# EAGLE library part SW-LED (library MOD-libDaniel)
SWITCH PUSH SPST-NO 10MA 12V
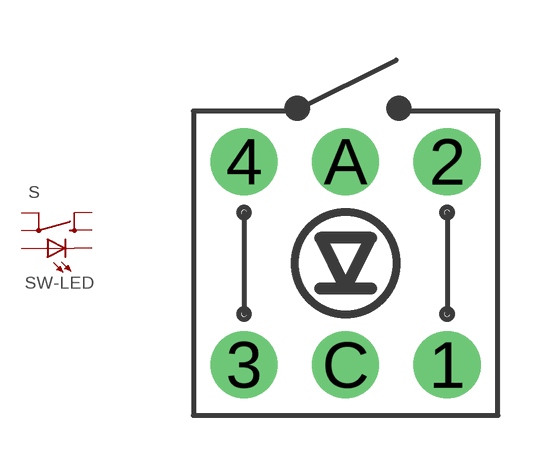
[diagram p0: symbol with the pads of TR2-SWITCH-MOMENTARY-LED; footprint TR2-SWITCH-MOMENTARY-LED]

Designator prefix S

## SW-LEDPTH  [TR2-SWITCH-MOMENTARY-LED]
1  1  pas
2  2  pas
3  3  pas
4  4  pas
A  A  pas
C  C  pas

## Footprint TR2-SWITCH-MOMENTARY-LED (pad centres in mm)
drill 0.8 pad 1.676: 1 2.54,-2.54; 2 2.54,2.54; 3 -2.54,-2.54; 4 -2.54,2.54; A 0,2.54; C 0,-2.54